# Altium footprint library Connectors.PcbLib: 5 footprints
Each footprint in its own frame and in the unit in brackets; x right, y up, seen from the top. Pads: shape width x height; smd on the part's side, far side on the other; paste and mask are expansions set on the pad; w line width, h text height; cw(c..) or ccw(c..) is an arc to the next point about the centre after c.
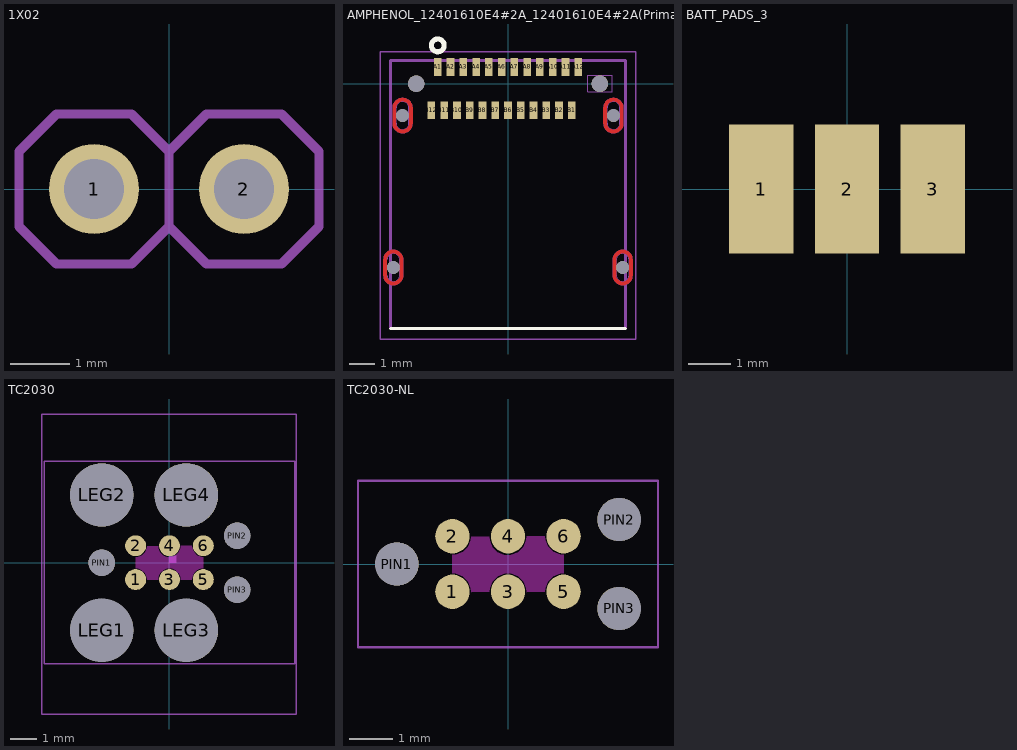
[diagram p0: the footprints below, top view; thin cyan lines are the x and y axes]

## 1X02 [mil]
pads (2):
  round 60 hole 40: 1(-50,0) 2(50,0)
Mechanical 8:
  region: -60,-10 -60,10 -40,10 -40,-10
  region: 40,-10 40,10 60,10 60,-10
Mechanical 22:
  lines w6: 0,-25 0,25 ; 0,-25 -25,-50 -75,-50 -100,-25 -100,25 -75,50 -25,50 0,25 ; 0,-25 25,-50 75,-50 100,-25 100,25 75,50 25,50 0,25

## AMPHENOL_12401610E4#2A_12401610E4#2A(Primary) [mm]
pads (30):
  rect 0.3x0.7 smd: A1(-2.75,0.66) A2(-2.25,0.66) A3(-1.75,0.66) A4(-1.25,0.66) A5(-0.75,0.66) A6(-0.25,0.66) A7(0.25,0.66) A8(0.75,0.66) A9(1.25,0.66) A10(1.75,0.66) A11(2.25,0.66) A12(2.75,0.66) B1(2.5,-1.04) B2(2,-1.04) B3(1.5,-1.04) B4(1,-1.04) B5(0.5,-1.04) B6(0,-1.04) B7(-0.5,-1.04) B8(-1,-1.04) B9(-1.5,-1.04) B10(-2,-1.04) B11(-2.5,-1.04) B12(-3,-1.04)
  round 0.5 hole 0.5 unplated: None(-4.49,-7.2) None(-4.13,-1.25) None(4.13,-1.25) None(4.49,-7.2)
  round 0.65 hole 0.65 unplated: None(-3.6,0) None(3.6,0)
Top Layer:
  lines w0.15: -4.815,-7.5 ccw(c-4.49,-7.5) -4.49,-7.825 ccw(c-4.49,-7.5) -4.165,-7.5 -4.165,-6.9 ccw(c-4.49,-6.9) -4.49,-6.575 ccw(c-4.49,-6.9) -4.815,-6.9 -4.815,-7.5 ; -4.455,-1.55 ccw(c-4.13,-1.55) -4.13,-1.875 ccw(c-4.13,-1.55) -3.805,-1.55 -3.805,-0.95 ccw(c-4.13,-0.95) -4.13,-0.625 ccw(c-4.13,-0.95) -4.455,-0.95 -4.455,-1.55 ; 3.805,-1.55 ccw(c4.13,-1.55) 4.13,-1.875 ccw(c4.13,-1.55) 4.455,-1.55 4.455,-0.95 ccw(c4.13,-0.95) 4.13,-0.625 ccw(c4.13,-0.95) 3.805,-0.95 3.805,-1.55 ; 4.165,-7.5 ccw(c4.49,-7.5) 4.49,-7.825 ccw(c4.49,-7.5) 4.815,-7.5 4.815,-6.9 ccw(c4.49,-6.9) 4.49,-6.575 ccw(c4.49,-6.9) 4.165,-6.9 4.165,-7.5
Bottom Layer:
  lines w0.15: -4.815,-7.5 ccw(c-4.49,-7.5) -4.49,-7.825 ccw(c-4.49,-7.5) -4.165,-7.5 -4.165,-6.9 ccw(c-4.49,-6.9) -4.49,-6.575 ccw(c-4.49,-6.9) -4.815,-6.9 -4.815,-7.5 ; -4.455,-1.55 ccw(c-4.13,-1.55) -4.13,-1.875 ccw(c-4.13,-1.55) -3.805,-1.55 -3.805,-0.95 ccw(c-4.13,-0.95) -4.13,-0.625 ccw(c-4.13,-0.95) -4.455,-0.95 -4.455,-1.55 ; 3.805,-1.55 ccw(c4.13,-1.55) 4.13,-1.875 ccw(c4.13,-1.55) 4.455,-1.55 4.455,-0.95 ccw(c4.13,-0.95) 4.13,-0.625 ccw(c4.13,-0.95) 3.805,-0.95 3.805,-1.55 ; 4.165,-7.5 ccw(c4.49,-7.5) 4.49,-7.825 ccw(c4.49,-7.5) 4.815,-7.5 4.815,-6.9 ccw(c4.49,-6.9) 4.49,-6.575 ccw(c4.49,-6.9) 4.165,-6.9 4.165,-7.5
Top Overlay:
  circle w0.2: c-2.75,1.5 r0.25
  lines w0.127: -4.6,-9.59 4.6,-9.59
Top Paste:
  lines w0.15: -4.815,-7.5 ccw(c-4.49,-7.5) -4.49,-7.825 ccw(c-4.49,-7.5) -4.165,-7.5 -4.165,-6.9 ccw(c-4.49,-6.9) -4.49,-6.575 ccw(c-4.49,-6.9) -4.815,-6.9 -4.815,-7.5 ; -4.455,-1.55 ccw(c-4.13,-1.55) -4.13,-1.875 ccw(c-4.13,-1.55) -3.805,-1.55 -3.805,-0.95 ccw(c-4.13,-0.95) -4.13,-0.625 ccw(c-4.13,-0.95) -4.455,-0.95 -4.455,-1.55 ; 3.805,-1.55 ccw(c4.13,-1.55) 4.13,-1.875 ccw(c4.13,-1.55) 4.455,-1.55 4.455,-0.95 ccw(c4.13,-0.95) 4.13,-0.625 ccw(c4.13,-0.95) 3.805,-0.95 3.805,-1.55 ; 4.165,-7.5 ccw(c4.49,-7.5) 4.49,-7.825 ccw(c4.49,-7.5) 4.815,-7.5 4.815,-6.9 ccw(c4.49,-6.9) 4.49,-6.575 ccw(c4.49,-6.9) 4.165,-6.9 4.165,-7.5
Bottom Paste:
  lines w0.15: -4.815,-7.5 ccw(c-4.49,-7.5) -4.49,-7.825 ccw(c-4.49,-7.5) -4.165,-7.5 -4.165,-6.9 ccw(c-4.49,-6.9) -4.49,-6.575 ccw(c-4.49,-6.9) -4.815,-6.9 -4.815,-7.5 ; -4.455,-1.55 ccw(c-4.13,-1.55) -4.13,-1.875 ccw(c-4.13,-1.55) -3.805,-1.55 -3.805,-0.95 ccw(c-4.13,-0.95) -4.13,-0.625 ccw(c-4.13,-0.95) -4.455,-0.95 -4.455,-1.55 ; 3.805,-1.55 ccw(c4.13,-1.55) 4.13,-1.875 ccw(c4.13,-1.55) 4.455,-1.55 4.455,-0.95 ccw(c4.13,-0.95) 4.13,-0.625 ccw(c4.13,-0.95) 3.805,-0.95 3.805,-1.55 ; 4.165,-7.5 ccw(c4.49,-7.5) 4.49,-7.825 ccw(c4.49,-7.5) 4.815,-7.5 4.815,-6.9 ccw(c4.49,-6.9) 4.49,-6.575 ccw(c4.49,-6.9) 4.165,-6.9 4.165,-7.5
Top Solder:
  drawing of 4 lines, arcs and shapes, not listed
Bottom Solder:
  drawing of 4 lines, arcs and shapes, not listed
Mechanical 1:
  lines w0: 3.125,-0.325 3.125,0.325 4.075,0.325 4.075,-0.325 3.125,-0.325
  lines w0.001: -4.74,-7.5 ccw(c-4.49,-7.5) -4.49,-7.75 ccw(c-4.49,-7.5) -4.24,-7.5 -4.24,-6.9 ccw(c-4.49,-6.9) -4.49,-6.65 ccw(c-4.49,-6.9) -4.74,-6.9 -4.74,-7.5 ; -4.38,-1.55 ccw(c-4.13,-1.55) -4.13,-1.8 ccw(c-4.13,-1.55) -3.88,-1.55 -3.88,-0.95 ccw(c-4.13,-0.95) -4.13,-0.7 ccw(c-4.13,-0.95) -4.38,-0.95 -4.38,-1.55 ; 3.88,-1.55 ccw(c4.13,-1.55) 4.13,-1.8 ccw(c4.13,-1.55) 4.38,-1.55 4.38,-0.95 ccw(c4.13,-0.95) 4.13,-0.7 ccw(c4.13,-0.95) 3.88,-0.95 3.88,-1.55 ; 4.24,-7.5 ccw(c4.49,-7.5) 4.49,-7.75 ccw(c4.49,-7.5) 4.74,-7.5 4.74,-6.9 ccw(c4.49,-6.9) 4.49,-6.65 ccw(c4.49,-6.9) 4.24,-6.9 4.24,-7.5
Mechanical 13:
  lines w0.127: -4.6,-9.59 -4.6,0.91 4.6,0.91 4.6,-9.59 -4.6,-9.59
Mechanical 15:
  lines w0.05: -5,-10 5,-10 5,1.25 -5,1.25 -5,-10

## BATT_PADS_3 [mil]
pads (3):
  rect 60x120 smd: 1(-80,0) 2(0,0) 3(80,0)

## TC2030 [mil]
pads (13):
  rrect100% 30.98x30.98 smd paste+0: 1(-50,-25) 2(-50,25) 3(0,-25) 4(0,25) 5(50,-25) 6(50,25)
  round 93.5 hole 93.5 unplated: LEG1(-100,-100) LEG2(-100,100) LEG3(25,-100) LEG4(25,100)
  round 39.02 hole 39.02 unplated: PIN1(-100,0) PIN2(100,40) PIN3(100,-40)
Top Layer keep-out:
  region: -50,8.27 -50,-8.27 -46.7,-8.6 -40.59,-11.12 -35.92,-15.79 -33.4,-21.9 -33.07,-25.2 -16.93,-25.2 -16.6,-21.9 -14.08,-15.79 -9.41,-11.12 -3.3,-8.6 0,-8.27 3.3,-8.6 9.41,-11.12 14.08,-15.79 16.6,-21.9 16.93,-25.2 33.07,-25.2 33.4,-21.9 35.92,-15.79 40.59,-11.12 46.7,-8.6 50,-8.27 50,8.27 46.7,8.6 40.59,11.12 35.92,15.79 33.4,21.9 33.07,25.2 16.93,25.2 16.6,21.82 14.01,15.57 9.23,10.79 2.99,8.2 -0.39,7.87 -3.62,8.19 -9.58,10.66 -14.14,15.22 -16.61,21.18 -16.93,24.41 -33.07,24.41 -33.38,21.26 -35.79,15.44 -40.24,10.99 -46.06,8.58 -49.21,8.27
Mechanical 8:
  lines w1.97: -185.04,-149.61 185.04,-149.61 185.04,149.61 -185.04,149.61 -185.04,-149.61
Mechanical 30:
  lines w1.97: -188.88,-223.62 187.5,-223.62 187.5,219.69 -188.88,219.69 -188.88,-223.62
Mechanical 31:
  region: 0,0 10,0 10,10 0,10
  region: 0,0 10,0 10,10 0,10
  region: 0,0 10,0 10,10 0,10
  region: 0,0 10,0 10,10 0,10

## TC2030-NL [mil]
pads (9):
  rrect100% 30.98x30.98 smd paste+0: 1(-50,-25) 2(-50,25) 3(0,-25) 4(0,25) 5(50,-25) 6(50,25)
  round 39.02 hole 39.02 unplated: PIN1(-100,0) PIN2(100,40) PIN3(100,-40)
Top Layer keep-out:
  region: -50,8.27 -50,-8.27 -46.7,-8.6 -40.59,-11.12 -35.92,-15.79 -33.4,-21.9 -33.07,-25.2 -16.93,-25.2 -16.6,-21.9 -14.08,-15.79 -9.41,-11.12 -3.3,-8.6 0,-8.27 3.3,-8.6 9.41,-11.12 14.08,-15.79 16.6,-21.9 16.93,-25.2 33.07,-25.2 33.4,-21.9 35.92,-15.79 40.59,-11.12 46.7,-8.6 50,-8.27 50,8.27 46.7,8.6 40.59,11.12 35.92,15.79 33.4,21.9 33.07,25.2 16.93,25.2 16.6,21.82 14.01,15.57 9.23,10.79 2.99,8.2 -0.39,7.87 -3.62,8.19 -9.58,10.66 -14.14,15.22 -16.61,21.18 -16.93,24.41 -33.07,24.41 -33.38,21.26 -35.79,15.44 -40.24,10.99 -46.06,8.58 -49.21,8.27
Mechanical 15:
  lines w1.97: -135,-75 -135,75 135,75 135,-75 -135,-75